# Altium footprint library ADI.PcbLib: 25 footprints (part 1 of 4)
Each footprint in its own frame and in the unit in brackets; x right, y up, seen from the top. Pads: shape width x height; smd on the part's side, far side on the other; paste and mask are expansions set on the pad; w line width, h text height; cw(c..) or ccw(c..) is an arc to the next point about the centre after c.
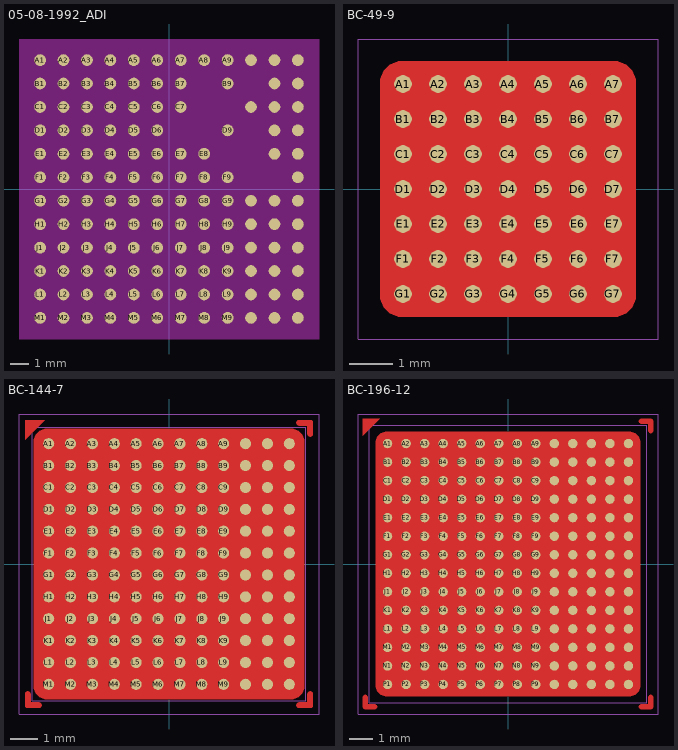
[diagram p0: the footprints below, top view; thin cyan lines are the x and y axes]

## 05-08-1992_ADI [mil]
pads (133):
  round 25 smd paste+0 mask+0: A1(-275,275) A2(-225,275) A3(-175,275) A4(-125,275) A5(-75,275) A6(-25,275) A7(25,275) A8(75,275) A9(125,275) A10(175,275) A11(225,275) A12(275,275) B1(-275,225) B2(-225,225) B3(-175,225) B4(-125,225) B5(-75,225) B6(-25,225) B7(25,225) B9(125,225) B11(225,225) B12(275,225) C1(-275,175) C2(-225,175) C3(-175,175) C4(-125,175) C5(-75,175) C6(-25,175) C7(25,175) C10(175,175) C11(225,175) C12(275,175) D1(-275,125) D2(-225,125) D3(-175,125) D4(-125,125) D5(-75,125) D6(-25,125) D9(125,125) D11(225,125) D12(275,125) E1(-275,75) E2(-225,75) E3(-175,75) E4(-125,75) E5(-75,75) E6(-25,75) E7(25,75) E8(75,75) E11(225,75) E12(275,75) F1(-275,25) F2(-225,25) F3(-175,25) F4(-125,25) F5(-75,25) F6(-25,25) F7(25,25) F8(75,25) F9(125,25) F12(275,25) G1(-275,-25) G2(-225,-25) G3(-175,-25) G4(-125,-25) G5(-75,-25) G6(-25,-25) G7(25,-25) G8(75,-25) G9(125,-25) G10(175,-25) G11(225,-25) G12(275,-25) H1(-275,-75) H2(-225,-75) H3(-175,-75) H4(-125,-75) H5(-75,-75) H6(-25,-75) H7(25,-75) H8(75,-75) H9(125,-75) H10(175,-75) H11(225,-75) H12(275,-75) J1(-275,-125) J2(-225,-125) J3(-175,-125) J4(-125,-125) J5(-75,-125) J6(-25,-125) J7(25,-125) J8(75,-125) J9(125,-125) J10(175,-125) J11(225,-125) J12(275,-125) K1(-275,-175) K2(-225,-175) K3(-175,-175) K4(-125,-175) K5(-75,-175) K6(-25,-175) K7(25,-175) K8(75,-175) K9(125,-175) K10(175,-175) K11(225,-175) K12(275,-175) L1(-275,-225) L2(-225,-225) L3(-175,-225) L4(-125,-225) L5(-75,-225) L6(-25,-225) L7(25,-225) L8(75,-225) L9(125,-225) L10(175,-225) L11(225,-225) L12(275,-225) M1(-275,-275) M2(-225,-275) M3(-175,-275) M4(-125,-275) M5(-75,-275) M6(-25,-275) M7(25,-275) M8(75,-275) M9(125,-275) M10(175,-275) M11(225,-275) M12(275,-275)
Keep-Out Layer:
  region: -320,-320 -320,320 320,320 320,-320
3D body "05-08-1992_ADI.step": height 202.09, standoff 0.02, extent -295.51,-295.51 295.51,295.51

## BC-49-9 [mil]
pads (49):
  round 16 smd paste+0 mask+0: A1(-94.49,94.49) A2(-62.99,94.49) A3(-31.5,94.49) A4(0,94.49) A5(31.5,94.49) A6(62.99,94.49) A7(94.49,94.49) B1(-94.49,62.99) B2(-62.99,62.99) B3(-31.5,62.99) B4(0,62.99) B5(31.5,62.99) B6(62.99,62.99) B7(94.49,62.99) C1(-94.49,31.5) C2(-62.99,31.5) C3(-31.5,31.5) C4(0,31.5) C5(31.5,31.5) C6(62.99,31.5) C7(94.49,31.5) D1(-94.49,0) D2(-62.99,0) D3(-31.5,0) D4(0,0) D5(31.5,0) D6(62.99,0) D7(94.49,0) E1(-94.49,-31.5) E2(-62.99,-31.5) E3(-31.5,-31.5) E4(0,-31.5) E5(31.5,-31.5) E6(62.99,-31.5) E7(94.49,-31.5) F1(-94.49,-62.99) F2(-62.99,-62.99) F3(-31.5,-62.99) F4(0,-62.99) F5(31.5,-62.99) F6(62.99,-62.99) F7(94.49,-62.99) G1(-94.49,-94.49) G2(-62.99,-94.49) G3(-31.5,-94.49) G4(0,-94.49) G5(31.5,-94.49) G6(62.99,-94.49) G7(94.49,-94.49)
Top Layer:
  pour cut-out: -95,115 -98.98,115 -106.33,111.96 -111.96,106.33 -115,98.98 -115,95 -115,-95 -115,-98.98 -111.96,-106.33 -106.33,-111.96 -98.98,-115 -95,-115 95,-115 98.98,-115 106.33,-111.96 111.96,-106.33 115,-98.98 115,-95 115,95 115,98.98 111.96,106.33 106.33,111.96 98.98,115 95,115
Top Solder:
  region: 126.2,114.2 126.2,113.4 126.81,111.93 127.93,110.81 129.4,110.2 130.2,110.2 130.99,110.2 132.46,110.81 133.59,111.93 134.2,113.4 134.2,114.2 134.2,130.2 134.2,130.99 133.59,132.46 132.46,133.59 130.99,134.2 130.2,134.2 114.2,134.2 113.4,134.2 111.93,133.59 110.81,132.46 110.2,130.99 110.2,130.2 110.2,129.4 110.81,127.93 111.93,126.81 113.4,126.2 114.2,126.2 124.2,126.2 124.59,126.16 125.31,125.86 125.86,125.31 126.16,124.59 126.2,124.2
  region: 114.2,-126.2 113.4,-126.2 111.93,-126.81 110.81,-127.93 110.2,-129.4 110.2,-130.2 110.2,-130.99 110.81,-132.46 111.93,-133.59 113.4,-134.2 114.2,-134.2 130.2,-134.2 130.99,-134.2 132.46,-133.59 133.59,-132.46 134.2,-130.99 134.2,-130.2 134.2,-114.2 134.2,-113.4 133.59,-111.93 132.46,-110.81 130.99,-110.2 130.2,-110.2 129.4,-110.2 127.93,-110.81 126.81,-111.93 126.2,-113.4 126.2,-114.2 126.2,-124.2 126.16,-124.59 125.86,-125.31 125.31,-125.86 124.59,-126.16 124.2,-126.2
  region: -126.2,-114.2 -126.2,-113.4 -126.81,-111.93 -127.93,-110.81 -129.4,-110.2 -130.2,-110.2 -130.99,-110.2 -132.46,-110.81 -133.59,-111.93 -134.2,-113.4 -134.2,-114.2 -134.2,-130.2 -134.2,-130.99 -133.59,-132.46 -132.46,-133.59 -130.99,-134.2 -130.2,-134.2 -114.2,-134.2 -113.4,-134.2 -111.93,-133.59 -110.81,-132.46 -110.2,-130.99 -110.2,-130.2 -110.2,-129.4 -110.81,-127.93 -111.93,-126.81 -113.4,-126.2 -114.2,-126.2 -124.2,-126.2 -124.59,-126.16 -125.31,-125.86 -125.86,-125.31 -126.16,-124.59 -126.2,-124.2
  region: -133.5,133.5 -133.5,104.95 -104.95,133.5
Top Courtyard:
  lines w1: -135,-135 -135,135 135,135 135,-135 -135,-135
3D body "BC-49-9_ADI.step": height 212.09, standoff -0.01, extent -122.99,-122.99 123,123

## BC-144-7 [mil]
pads (144):
  round 16 smd mask+2: A1(-173.23,173.23) A2(-141.73,173.23) A3(-110.24,173.23) A4(-78.74,173.23) A5(-47.24,173.23) A6(-15.75,173.23) A7(15.75,173.23) A8(47.24,173.23) A9(78.74,173.23) A10(110.24,173.23) A11(141.73,173.23) A12(173.23,173.23) B1(-173.23,141.73) B2(-141.73,141.73) B3(-110.24,141.73) B4(-78.74,141.73) B5(-47.24,141.73) B6(-15.75,141.73) B7(15.75,141.73) B8(47.24,141.73) B9(78.74,141.73) B10(110.24,141.73) B11(141.73,141.73) B12(173.23,141.73) C1(-173.23,110.24) C2(-141.73,110.24) C3(-110.24,110.24) C4(-78.74,110.24) C5(-47.24,110.24) C6(-15.75,110.24) C7(15.75,110.24) C8(47.24,110.24) C9(78.74,110.24) C10(110.24,110.24) C11(141.73,110.24) C12(173.23,110.24) D1(-173.23,78.74) D2(-141.73,78.74) D3(-110.24,78.74) D4(-78.74,78.74) D5(-47.24,78.74) D6(-15.75,78.74) D7(15.75,78.74) D8(47.24,78.74) D9(78.74,78.74) D10(110.24,78.74) D11(141.73,78.74) D12(173.23,78.74) E1(-173.23,47.24) E2(-141.73,47.24) E3(-110.24,47.24) E4(-78.74,47.24) E5(-47.24,47.24) E6(-15.75,47.24) E7(15.75,47.24) E8(47.24,47.24) E9(78.74,47.24) E10(110.24,47.24) E11(141.73,47.24) E12(173.23,47.24) F1(-173.23,15.75) F2(-141.73,15.75) F3(-110.24,15.75) F4(-78.74,15.75) F5(-47.24,15.75) F6(-15.75,15.75) F7(15.75,15.75) F8(47.24,15.75) F9(78.74,15.75) F10(110.24,15.75) F11(141.73,15.75) F12(173.23,15.75) G1(-173.23,-15.75) G2(-141.73,-15.75) G3(-110.24,-15.75) G4(-78.74,-15.75) G5(-47.24,-15.75) G6(-15.75,-15.75) G7(15.75,-15.75) G8(47.24,-15.75) G9(78.74,-15.75) G10(110.24,-15.75) G11(141.73,-15.75) G12(173.23,-15.75) H1(-173.23,-47.24) H2(-141.73,-47.24) H3(-110.24,-47.24) H4(-78.74,-47.24) H5(-47.24,-47.24) H6(-15.75,-47.24) H7(15.75,-47.24) H8(47.24,-47.24) H9(78.74,-47.24) H10(110.24,-47.24) H11(141.73,-47.24) H12(173.23,-47.24) J1(-173.23,-78.74) J2(-141.73,-78.74) J3(-110.24,-78.74) J4(-78.74,-78.74) J5(-47.24,-78.74) J6(-15.75,-78.74) J7(15.75,-78.74) J8(47.24,-78.74) J9(78.74,-78.74) J10(110.24,-78.74) J11(141.73,-78.74) J12(173.23,-78.74) K1(-173.23,-110.24) K2(-141.73,-110.24) K3(-110.24,-110.24) K4(-78.74,-110.24) K5(-47.24,-110.24) K6(-15.75,-110.24) K7(15.75,-110.24) K8(47.24,-110.24) K9(78.74,-110.24) K10(110.24,-110.24) K11(141.73,-110.24) K12(173.23,-110.24) L1(-173.23,-141.73) L2(-141.73,-141.73) L3(-110.24,-141.73) L4(-78.74,-141.73) L5(-47.24,-141.73) L6(-15.75,-141.73) L7(15.75,-141.73) L8(47.24,-141.73) L9(78.74,-141.73) L10(110.24,-141.73) L11(141.73,-141.73) L12(173.23,-141.73) M1(-173.23,-173.23) M2(-141.73,-173.23) M3(-110.24,-173.23) M4(-78.74,-173.23) M5(-47.24,-173.23) M6(-15.75,-173.23) M7(15.75,-173.23) M8(47.24,-173.23) M9(78.74,-173.23) M10(110.24,-173.23) M11(141.73,-173.23) M12(173.23,-173.23)
Top Layer:
  region: 199.31,187.31 199.31,186.52 199.92,185.05 201.05,183.92 202.52,183.31 203.31,183.31 204.11,183.31 205.58,183.92 206.71,185.05 207.31,186.52 207.31,187.31 207.31,203.31 207.31,204.11 206.71,205.58 205.58,206.71 204.11,207.31 203.31,207.31 187.31,207.31 186.52,207.31 185.05,206.71 183.92,205.58 183.31,204.11 183.31,203.31 183.31,202.52 183.92,201.05 185.05,199.92 186.52,199.31 187.31,199.31 197.31,199.31 197.7,199.28 198.43,198.98 198.98,198.43 199.28,197.71 199.31,197.31
  region: 187.31,-199.31 186.52,-199.31 185.05,-199.92 183.92,-201.05 183.31,-202.52 183.31,-203.31 183.31,-204.11 183.92,-205.58 185.05,-206.71 186.52,-207.31 187.31,-207.31 203.31,-207.31 204.11,-207.31 205.58,-206.71 206.71,-205.58 207.31,-204.11 207.31,-203.31 207.31,-187.31 207.31,-186.52 206.71,-185.05 205.58,-183.92 204.11,-183.31 203.31,-183.31 202.52,-183.31 201.05,-183.92 199.92,-185.05 199.31,-186.52 199.31,-187.31 199.31,-197.31 199.28,-197.7 198.98,-198.43 198.43,-198.98 197.71,-199.28 197.31,-199.31
  pour cut-out: 195,-175 195,-178.98 191.96,-186.33 186.33,-191.96 178.98,-195 175,-195 -175,-195 -178.98,-195 -186.33,-191.96 -191.96,-186.33 -195,-178.98 -195,-175 -195,175 -195,178.98 -191.96,186.33 -186.33,191.96 -178.98,195 -175,195 175,195 178.98,195 186.33,191.96 191.96,186.33 195,178.98 195,175
  region: -207.31,207.31 -207.31,178.77 -178.77,207.32
  region: -199.31,-187.31 -199.31,-186.52 -199.92,-185.05 -201.05,-183.92 -202.52,-183.31 -203.31,-183.31 -204.11,-183.31 -205.58,-183.92 -206.71,-185.05 -207.31,-186.52 -207.31,-187.31 -207.31,-203.31 -207.31,-204.11 -206.71,-205.58 -205.58,-206.71 -204.11,-207.31 -203.31,-207.31 -187.31,-207.31 -186.52,-207.31 -185.05,-206.71 -183.92,-205.58 -183.31,-204.11 -183.31,-203.31 -183.31,-202.52 -183.92,-201.05 -185.05,-199.92 -186.52,-199.31 -187.31,-199.31 -197.31,-199.31 -197.7,-199.28 -198.43,-198.98 -198.98,-198.43 -199.28,-197.71 -199.31,-197.31
Top Designator:
  text ".Designator" at -127.64,-12.5 h35
Top Courtyard:
  lines w1: -216,-216 -216,216 216,216 216,-216 -216,-216
Top Component Outline:
  lines w1: -196.85,-196.85 -196.85,196.85 196.85,196.85 196.85,-196.85 -196.85,-196.85
3D body: height 51.97, standoff 12.6, extent -196.85,-196.85 196.85,196.85
3D body: height 16.84, standoff -2.84, extent -183.03,163.49 -163.43,183.08
3D body: height 16.84, standoff -2.84, extent -183.03,132 -163.43,151.58
3D body: height 16.84, standoff -2.84, extent -183.03,100.5 -163.43,120.09
3D body: height 16.84, standoff -2.84, extent -183.03,69.01 -163.43,88.59
3D body: height 16.84, standoff -2.84, extent -183.03,-56.98 -163.43,-37.39
3D body: height 16.84, standoff -2.84, extent -183.03,-25.48 -163.43,-5.9
3D body: height 16.84, standoff -2.84, extent -183.03,6.01 -163.43,25.6
3D body: height 16.84, standoff -2.84, extent -183.03,37.51 -163.43,57.09
3D body: height 16.84, standoff -2.84, extent -183.03,-182.96 -163.43,-163.38
3D body: height 16.84, standoff -2.84, extent -183.03,-151.47 -163.43,-131.88
3D body: height 16.84, standoff -2.84, extent -183.03,-119.97 -163.43,-100.39
3D body: height 16.84, standoff -2.84, extent -183.03,-88.47 -163.43,-68.89
3D body: height 16.84, standoff -2.84, extent -151.54,163.49 -131.93,183.08
3D body: height 16.84, standoff -2.84, extent -151.54,132 -131.93,151.58
3D body: height 16.84, standoff -2.84, extent -151.54,100.5 -131.93,120.09
3D body: height 16.84, standoff -2.84, extent -151.54,69.01 -131.93,88.59
3D body: height 16.84, standoff -2.84, extent -151.54,-56.98 -131.93,-37.39
3D body: height 16.84, standoff -2.84, extent -151.54,-25.48 -131.93,-5.9
3D body: height 16.84, standoff -2.84, extent -151.54,6.01 -131.93,25.6
3D body: height 16.84, standoff -2.84, extent -151.54,37.51 -131.93,57.09
3D body: height 16.84, standoff -2.84, extent -151.54,-182.96 -131.93,-163.38
3D body: height 16.84, standoff -2.84, extent -151.54,-151.47 -131.93,-131.88
3D body: height 16.84, standoff -2.84, extent -151.54,-119.97 -131.93,-100.39
3D body: height 16.84, standoff -2.84, extent -151.54,-88.47 -131.93,-68.89
3D body: height 16.84, standoff -2.84, extent -120.04,163.49 -100.44,183.08
3D body: height 16.84, standoff -2.84, extent -120.04,132 -100.44,151.58
3D body: height 16.84, standoff -2.84, extent -120.04,100.5 -100.44,120.09
3D body: height 16.84, standoff -2.84, extent -120.04,69.01 -100.44,88.59
3D body: height 16.84, standoff -2.84, extent -120.04,-56.98 -100.44,-37.39
3D body: height 16.84, standoff -2.84, extent -120.04,-25.48 -100.44,-5.9
3D body: height 16.84, standoff -2.84, extent -120.04,6.01 -100.44,25.6
3D body: height 16.84, standoff -2.84, extent -120.04,37.51 -100.44,57.09
3D body: height 16.84, standoff -2.84, extent -120.04,-182.96 -100.44,-163.38
3D body: height 16.84, standoff -2.84, extent -120.04,-151.47 -100.44,-131.88
3D body: height 16.84, standoff -2.84, extent -120.04,-119.97 -100.44,-100.39
3D body: height 16.84, standoff -2.84, extent -120.04,-88.47 -100.44,-68.89
3D body: height 16.84, standoff -2.84, extent -88.54,163.49 -68.94,183.08
3D body: height 16.84, standoff -2.84, extent -88.54,132 -68.94,151.58
3D body: height 16.84, standoff -2.84, extent -88.54,100.5 -68.94,120.09
3D body: height 16.84, standoff -2.84, extent -88.54,69.01 -68.94,88.59
3D body: height 16.84, standoff -2.84, extent -88.54,-56.98 -68.94,-37.39
3D body: height 16.84, standoff -2.84, extent -88.54,-25.48 -68.94,-5.9
3D body: height 16.84, standoff -2.84, extent -88.54,6.01 -68.94,25.6
3D body: height 16.84, standoff -2.84, extent -88.54,37.51 -68.94,57.09
3D body: height 16.84, standoff -2.84, extent -88.54,-182.96 -68.94,-163.38
3D body: height 16.84, standoff -2.84, extent -88.54,-151.47 -68.94,-131.88
3D body: height 16.84, standoff -2.84, extent -88.54,-119.97 -68.94,-100.39
3D body: height 16.84, standoff -2.84, extent -88.54,-88.47 -68.94,-68.89
3D body: height 16.84, standoff -2.84, extent -57.05,163.49 -37.44,183.08
3D body: height 16.84, standoff -2.84, extent -57.05,132 -37.44,151.58
3D body: height 16.84, standoff -2.84, extent -57.05,100.5 -37.44,120.09
3D body: height 16.84, standoff -2.84, extent -57.05,69.01 -37.44,88.59
3D body: height 16.84, standoff -2.84, extent -57.05,-56.98 -37.44,-37.39
3D body: height 16.84, standoff -2.84, extent -57.05,-25.48 -37.44,-5.9
3D body: height 16.84, standoff -2.84, extent -57.05,6.01 -37.44,25.6
3D body: height 16.84, standoff -2.84, extent -57.05,37.51 -37.44,57.09
3D body: height 16.84, standoff -2.84, extent -57.05,-182.96 -37.44,-163.38
3D body: height 16.84, standoff -2.84, extent -57.05,-151.47 -37.44,-131.88
3D body: height 16.84, standoff -2.84, extent -57.05,-119.97 -37.44,-100.39
3D body: height 16.84, standoff -2.84, extent -57.05,-88.47 -37.44,-68.89
3D body: height 16.84, standoff -2.84, extent -25.55,163.49 -5.95,183.08
3D body: height 16.84, standoff -2.84, extent -25.55,132 -5.95,151.58
3D body: height 16.84, standoff -2.84, extent -25.55,100.5 -5.95,120.09
3D body: height 16.84, standoff -2.84, extent -25.55,69.01 -5.95,88.59
3D body: height 16.84, standoff -2.84, extent -25.55,-56.98 -5.95,-37.39
3D body: height 16.84, standoff -2.84, extent -25.55,-25.48 -5.95,-5.9
3D body: height 16.84, standoff -2.84, extent -25.55,6.01 -5.95,25.6
3D body: height 16.84, standoff -2.84, extent -25.55,37.51 -5.95,57.09
3D body: height 16.84, standoff -2.84, extent -25.55,-182.96 -5.95,-163.38
3D body: height 16.84, standoff -2.84, extent -25.55,-151.47 -5.95,-131.88
3D body: height 16.84, standoff -2.84, extent -25.55,-119.97 -5.95,-100.39
3D body: height 16.84, standoff -2.84, extent -25.55,-88.47 -5.95,-68.89
3D body: height 16.84, standoff -2.84, extent 5.94,163.49 25.55,183.08
3D body: height 16.84, standoff -2.84, extent 5.94,132 25.55,151.58
3D body: height 16.84, standoff -2.84, extent 5.94,100.5 25.55,120.09
3D body: height 16.84, standoff -2.84, extent 5.94,69.01 25.55,88.59
3D body: height 16.84, standoff -2.84, extent 5.94,-56.98 25.55,-37.39
3D body: height 16.84, standoff -2.84, extent 5.94,-25.48 25.55,-5.9
3D body: height 16.84, standoff -2.84, extent 5.94,6.01 25.55,25.6
3D body: height 16.84, standoff -2.84, extent 5.94,37.51 25.55,57.09
3D body: height 16.84, standoff -2.84, extent 5.94,-182.96 25.55,-163.38
3D body: height 16.84, standoff -2.84, extent 5.94,-151.47 25.55,-131.88
3D body: height 16.84, standoff -2.84, extent 5.94,-119.97 25.55,-100.39
3D body: height 16.84, standoff -2.84, extent 5.94,-88.47 25.55,-68.89
3D body: height 16.84, standoff -2.84, extent 37.44,163.49 57.04,183.08
3D body: height 16.84, standoff -2.84, extent 37.44,132 57.04,151.58
3D body: height 16.84, standoff -2.84, extent 37.44,100.5 57.04,120.09
3D body: height 16.84, standoff -2.84, extent 37.44,69.01 57.04,88.59
3D body: height 16.84, standoff -2.84, extent 37.44,-56.98 57.04,-37.39
3D body: height 16.84, standoff -2.84, extent 37.44,-25.48 57.04,-5.9
3D body: height 16.84, standoff -2.84, extent 37.44,6.01 57.04,25.6
3D body: height 16.84, standoff -2.84, extent 37.44,37.51 57.04,57.09
3D body: height 16.84, standoff -2.84, extent 37.44,-182.96 57.04,-163.38
3D body: height 16.84, standoff -2.84, extent 37.44,-151.47 57.04,-131.88
3D body: height 16.84, standoff -2.84, extent 37.44,-119.97 57.04,-100.39
3D body: height 16.84, standoff -2.84, extent 37.44,-88.47 57.04,-68.89
3D body: height 16.84, standoff -2.84, extent 68.94,163.49 88.54,183.08
3D body: height 16.84, standoff -2.84, extent 68.94,132 88.54,151.58
3D body: height 16.84, standoff -2.84, extent 68.94,100.5 88.54,120.09
3D body: height 16.84, standoff -2.84, extent 68.94,69.01 88.54,88.59
3D body: height 16.84, standoff -2.84, extent 68.94,-56.98 88.54,-37.39
3D body: height 16.84, standoff -2.84, extent 68.94,-25.48 88.54,-5.9
3D body: height 16.84, standoff -2.84, extent 68.94,6.01 88.54,25.6
3D body: height 16.84, standoff -2.84, extent 68.94,37.51 88.54,57.09
3D body: height 16.84, standoff -2.84, extent 68.94,-182.96 88.54,-163.38
3D body: height 16.84, standoff -2.84, extent 68.94,-151.47 88.54,-131.88
3D body: height 16.84, standoff -2.84, extent 68.94,-119.97 88.54,-100.39
3D body: height 16.84, standoff -2.84, extent 68.94,-88.47 88.54,-68.89
3D body: height 16.84, standoff -2.84, extent 100.43,163.49 120.04,183.08
3D body: height 16.84, standoff -2.84, extent 100.43,132 120.04,151.58
3D body: height 16.84, standoff -2.84, extent 100.43,100.5 120.04,120.09
3D body: height 16.84, standoff -2.84, extent 100.43,69.01 120.04,88.59
3D body: height 16.84, standoff -2.84, extent 100.43,-56.98 120.04,-37.39
3D body: height 16.84, standoff -2.84, extent 100.43,-25.48 120.04,-5.9
3D body: height 16.84, standoff -2.84, extent 100.43,6.01 120.04,25.6
3D body: height 16.84, standoff -2.84, extent 100.43,37.51 120.04,57.09
3D body: height 16.84, standoff -2.84, extent 100.43,-182.96 120.04,-163.38
3D body: height 16.84, standoff -2.84, extent 100.43,-151.47 120.04,-131.88
3D body: height 16.84, standoff -2.84, extent 100.43,-119.97 120.04,-100.39
3D body: height 16.84, standoff -2.84, extent 100.43,-88.47 120.04,-68.89
3D body: height 16.84, standoff -2.84, extent 131.93,163.49 151.53,183.08
3D body: height 16.84, standoff -2.84, extent 131.93,132 151.53,151.58
3D body: height 16.84, standoff -2.84, extent 131.93,100.5 151.53,120.09
3D body: height 16.84, standoff -2.84, extent 131.93,69.01 151.53,88.59
3D body: height 16.84, standoff -2.84, extent 131.93,-56.98 151.53,-37.39
3D body: height 16.84, standoff -2.84, extent 131.93,-25.48 151.53,-5.9
3D body: height 16.84, standoff -2.84, extent 131.93,6.01 151.53,25.6
3D body: height 16.84, standoff -2.84, extent 131.93,37.51 151.53,57.09
3D body: height 16.84, standoff -2.84, extent 131.93,-182.96 151.53,-163.38
3D body: height 16.84, standoff -2.84, extent 131.93,-151.47 151.53,-131.88
3D body: height 16.84, standoff -2.84, extent 131.93,-119.97 151.53,-100.39
3D body: height 16.84, standoff -2.84, extent 131.93,-88.47 151.53,-68.89
3D body: height 16.84, standoff -2.84, extent 163.42,-88.47 183.03,-68.89
3D body: height 16.84, standoff -2.84, extent 163.42,-119.97 183.03,-100.39
3D body: height 16.84, standoff -2.84, extent 163.42,-151.47 183.03,-131.88
3D body: height 16.84, standoff -2.84, extent 163.42,-182.96 183.03,-163.38
3D body: height 16.84, standoff -2.84, extent 163.42,37.51 183.03,57.09
3D body: height 16.84, standoff -2.84, extent 163.42,6.01 183.03,25.6
3D body: height 16.84, standoff -2.84, extent 163.42,-25.48 183.03,-5.9
3D body: height 16.84, standoff -2.84, extent 163.42,-56.98 183.03,-37.39
3D body: height 16.84, standoff -2.84, extent 163.42,69.01 183.03,88.59
3D body: height 16.84, standoff -2.84, extent 163.42,100.5 183.03,120.09
3D body: height 16.84, standoff -2.84, extent 163.42,132 183.03,151.58
3D body: height 16.84, standoff -2.84, extent 163.42,163.49 183.03,183.08

## BC-196-12 [mil]
pads (196):
  round 16 smd mask+2: A1(-204.72,204.72) A2(-173.23,204.72) A3(-141.73,204.72) A4(-110.24,204.72) A5(-78.74,204.72) A6(-47.24,204.72) A7(-15.75,204.72) A8(15.75,204.72) A9(47.24,204.72) A10(78.74,204.72) A11(110.24,204.72) A12(141.73,204.72) A13(173.23,204.72) A14(204.72,204.72) B1(-204.72,173.23) B2(-173.23,173.23) B3(-141.73,173.23) B4(-110.24,173.23) B5(-78.74,173.23) B6(-47.24,173.23) B7(-15.75,173.23) B8(15.75,173.23) B9(47.24,173.23) B10(78.74,173.23) B11(110.24,173.23) B12(141.73,173.23) B13(173.23,173.23) B14(204.72,173.23) C1(-204.72,141.73) C2(-173.23,141.73) C3(-141.73,141.73) C4(-110.24,141.73) C5(-78.74,141.73) C6(-47.24,141.73) C7(-15.75,141.73) C8(15.75,141.73) C9(47.24,141.73) C10(78.74,141.73) C11(110.24,141.73) C12(141.73,141.73) C13(173.23,141.73) C14(204.72,141.73) D1(-204.72,110.24) D2(-173.23,110.24) D3(-141.73,110.24) D4(-110.24,110.24) D5(-78.74,110.24) D6(-47.24,110.24) D7(-15.75,110.24) D8(15.75,110.24) D9(47.24,110.24) D10(78.74,110.24) D11(110.24,110.24) D12(141.73,110.24) D13(173.23,110.24) D14(204.72,110.24) E1(-204.72,78.74) E2(-173.23,78.74) E3(-141.73,78.74) E4(-110.24,78.74) E5(-78.74,78.74) E6(-47.24,78.74) E7(-15.75,78.74) E8(15.75,78.74) E9(47.24,78.74) E10(78.74,78.74) E11(110.24,78.74) E12(141.73,78.74) E13(173.23,78.74) E14(204.72,78.74) F1(-204.72,47.24) F2(-173.23,47.24) F3(-141.73,47.24) F4(-110.24,47.24) F5(-78.74,47.24) F6(-47.24,47.24) F7(-15.75,47.24) F8(15.75,47.24) F9(47.24,47.24) F10(78.74,47.24) F11(110.24,47.24) F12(141.73,47.24) F13(173.23,47.24) F14(204.72,47.24) G1(-204.72,15.75) G2(-173.23,15.75) G3(-141.73,15.75) G4(-110.24,15.75) G5(-78.74,15.75) G6(-47.24,15.75) G7(-15.75,15.75) G8(15.75,15.75) G9(47.24,15.75) G10(78.74,15.75) G11(110.24,15.75) G12(141.73,15.75) G13(173.23,15.75) G14(204.72,15.75) H1(-204.72,-15.75) H2(-173.23,-15.75) H3(-141.73,-15.75) H4(-110.24,-15.75) H5(-78.74,-15.75) H6(-47.24,-15.75) H7(-15.75,-15.75) H8(15.75,-15.75) H9(47.24,-15.75) H10(78.74,-15.75) H11(110.24,-15.75) H12(141.73,-15.75) H13(173.23,-15.75) H14(204.72,-15.75) J1(-204.72,-47.24) J2(-173.23,-47.24) J3(-141.73,-47.24) J4(-110.24,-47.24) J5(-78.74,-47.24) J6(-47.24,-47.24) J7(-15.75,-47.24) J8(15.75,-47.24) J9(47.24,-47.24) J10(78.74,-47.24) J11(110.24,-47.24) J12(141.73,-47.24) J13(173.23,-47.24) J14(204.72,-47.24) K1(-204.72,-78.74) K2(-173.23,-78.74) K3(-141.73,-78.74) K4(-110.24,-78.74) K5(-78.74,-78.74) K6(-47.24,-78.74) K7(-15.75,-78.74) K8(15.75,-78.74) K9(47.24,-78.74) K10(78.74,-78.74) K11(110.24,-78.74) K12(141.73,-78.74) K13(173.23,-78.74) K14(204.72,-78.74) L1(-204.72,-110.24) L2(-173.23,-110.24) L3(-141.73,-110.24) L4(-110.24,-110.24) L5(-78.74,-110.24) L6(-47.24,-110.24) L7(-15.75,-110.24) L8(15.75,-110.24) L9(47.24,-110.24) L10(78.74,-110.24) L11(110.24,-110.24) L12(141.73,-110.24) L13(173.23,-110.24) L14(204.72,-110.24) M1(-204.72,-141.73) M2(-173.23,-141.73) M3(-141.73,-141.73) M4(-110.24,-141.73) M5(-78.74,-141.73) M6(-47.24,-141.73) M7(-15.75,-141.73) M8(15.75,-141.73) M9(47.24,-141.73) M10(78.74,-141.73) M11(110.24,-141.73) M12(141.73,-141.73) M13(173.23,-141.73) M14(204.72,-141.73) N1(-204.72,-173.23) N2(-173.23,-173.23) N3(-141.73,-173.23) N4(-110.24,-173.23) N5(-78.74,-173.23) N6(-47.24,-173.23) N7(-15.75,-173.23) N8(15.75,-173.23) N9(47.24,-173.23) N10(78.74,-173.23) N11(110.24,-173.23) N12(141.73,-173.23) N13(173.23,-173.23) N14(204.72,-173.23) P1(-204.72,-204.72) P2(-173.23,-204.72) P3(-141.73,-204.72) P4(-110.24,-204.72) P5(-78.74,-204.72) P6(-47.24,-204.72) P7(-15.75,-204.72) P8(15.75,-204.72) P9(47.24,-204.72) P10(78.74,-204.72) P11(110.24,-204.72) P12(141.73,-204.72) P13(173.23,-204.72) P14(204.72,-204.72)
Top Layer:
  region: 238.68,226.69 238.68,225.89 239.29,224.42 240.42,223.29 241.89,222.69 242.68,222.69 243.48,222.69 244.95,223.29 246.08,224.42 246.68,225.89 246.68,226.69 246.68,242.69 246.68,243.48 246.08,244.95 244.95,246.08 243.48,246.69 242.68,246.69 226.68,246.69 225.89,246.69 224.42,246.08 223.29,244.95 222.68,243.48 222.68,242.69 222.68,241.89 223.29,240.42 224.42,239.29 225.89,238.69 226.68,238.69 236.68,238.69 237.07,238.65 237.8,238.35 238.35,237.8 238.65,237.08 238.68,236.69
  pour cut-out: -225,-205 -225,-208.98 -221.96,-216.33 -216.33,-221.96 -208.98,-225 -205,-225 205,-225 208.98,-225 216.33,-221.96 221.96,-216.33 225,-208.98 225,-205 225,205 225,208.98 221.96,216.33 216.33,221.96 208.98,225 205,225 -205,225 -208.98,225 -216.33,221.96 -221.96,216.33 -225,208.98 -225,205
  region: -246.69,246.69 -246.69,218.14 -218.14,246.69
  region: 226.69,-238.68 225.89,-238.68 224.42,-239.29 223.29,-240.42 222.69,-241.89 222.69,-242.68 222.69,-243.48 223.29,-244.95 224.42,-246.08 225.89,-246.68 226.69,-246.68 242.69,-246.68 243.48,-246.68 244.95,-246.08 246.08,-244.95 246.69,-243.48 246.69,-242.68 246.69,-226.68 246.69,-225.89 246.08,-224.42 244.95,-223.29 243.48,-222.68 242.69,-222.68 241.89,-222.68 240.42,-223.29 239.29,-224.42 238.69,-225.89 238.69,-226.68 238.69,-236.68 238.65,-237.07 238.35,-237.8 237.8,-238.35 237.08,-238.65 236.69,-238.68
  region: -238.68,-226.69 -238.68,-225.89 -239.29,-224.42 -240.42,-223.29 -241.89,-222.69 -242.68,-222.69 -243.48,-222.69 -244.95,-223.29 -246.08,-224.42 -246.68,-225.89 -246.68,-226.69 -246.68,-242.69 -246.68,-243.48 -246.08,-244.95 -244.95,-246.08 -243.48,-246.69 -242.68,-246.69 -226.68,-246.69 -225.89,-246.69 -224.42,-246.08 -223.29,-244.95 -222.68,-243.48 -222.68,-242.69 -222.68,-241.89 -223.29,-240.42 -224.42,-239.29 -225.89,-238.69 -226.68,-238.69 -236.68,-238.69 -237.07,-238.65 -237.8,-238.35 -238.35,-237.8 -238.65,-237.08 -238.68,-236.69
Top Designator:
  text ".Designator" at -127.64,-12.5 h35
Top Courtyard:
  lines w1: -255,-255 255,-255 255,255 -255,255 -255,-255
Top Component Outline:
  lines w1: -236.22,-236.22 236.22,-236.22 236.22,236.22 -236.22,236.22 -236.22,-236.22 ; -216,192 -207,192 -207,201 -216,201 -216,192 ; -160.73,-152.68 160.73,-152.68 160.73,152.66 -160.73,152.66 -160.73,-152.68
3D body: height 29.96, standoff 27.56, extent 203,-189 206,-178
3D body: height 29.96, standoff 27.56, extent 199,-185 210,-182
3D body: height 29.96, standoff 27.56, extent -216,192 -207,201
3D body: height 48.03, standoff 27.56, extent -160.73,-152.68 160.73,152.66
3D body: height 16.84, standoff -2.84, extent 194.92,194.99 214.52,214.57
3D body: height 16.84, standoff -2.84, extent 194.92,163.49 214.52,183.08
3D body: height 16.84, standoff -2.84, extent 194.92,132 214.52,151.58
3D body: height 16.84, standoff -2.84, extent 194.92,100.5 214.52,120.09
3D body: height 16.84, standoff -2.84, extent 194.92,69.01 214.52,88.59
3D body: height 16.84, standoff -2.84, extent 194.92,37.51 214.52,57.09
3D body: height 16.84, standoff -2.84, extent 194.92,6.01 214.52,25.6
3D body: height 16.84, standoff -2.84, extent 194.92,-25.48 214.52,-5.9
3D body: height 16.84, standoff -2.84, extent 194.92,-56.98 214.52,-37.39
3D body: height 16.84, standoff -2.84, extent 194.92,-88.47 214.52,-68.89
3D body: height 16.84, standoff -2.84, extent 194.92,-119.97 214.52,-100.39
3D body: height 16.84, standoff -2.84, extent 194.92,-151.47 214.52,-131.88
3D body: height 16.84, standoff -2.84, extent 194.92,-182.96 214.52,-163.38
3D body: height 16.84, standoff -2.84, extent 194.92,-214.46 214.52,-194.87
3D body: height 16.84, standoff -2.84, extent 163.42,-214.46 183.03,-194.87
3D body: height 16.84, standoff -2.84, extent 163.42,-182.96 183.03,-163.38
3D body: height 16.84, standoff -2.84, extent 163.42,-151.47 183.03,-131.88
3D body: height 16.84, standoff -2.84, extent 163.42,-119.97 183.03,-100.39
3D body: height 16.84, standoff -2.84, extent 163.42,-88.47 183.03,-68.89
3D body: height 16.84, standoff -2.84, extent 163.42,-56.98 183.03,-37.39
3D body: height 16.84, standoff -2.84, extent 163.42,-25.48 183.03,-5.9
3D body: height 16.84, standoff -2.84, extent 163.42,6.01 183.03,25.6
3D body: height 16.84, standoff -2.84, extent 163.42,37.51 183.03,57.09
3D body: height 16.84, standoff -2.84, extent 163.42,69.01 183.03,88.59
3D body: height 16.84, standoff -2.84, extent 163.42,100.5 183.03,120.09
3D body: height 16.84, standoff -2.84, extent 163.42,132 183.03,151.58
3D body: height 16.84, standoff -2.84, extent 163.42,163.49 183.03,183.08
3D body: height 16.84, standoff -2.84, extent 163.42,194.99 183.03,214.57
3D body: height 16.84, standoff -2.84, extent 131.93,-214.46 151.53,-194.87
3D body: height 16.84, standoff -2.84, extent 131.93,-182.96 151.53,-163.38
3D body: height 16.84, standoff -2.84, extent 131.93,-151.47 151.53,-131.88
3D body: height 16.84, standoff -2.84, extent 131.93,-119.97 151.53,-100.39
3D body: height 16.84, standoff -2.84, extent 131.93,-88.47 151.53,-68.89
3D body: height 16.84, standoff -2.84, extent 131.93,-56.98 151.53,-37.39
3D body: height 16.84, standoff -2.84, extent 131.93,-25.48 151.53,-5.9
3D body: height 16.84, standoff -2.84, extent 131.93,6.01 151.53,25.6
3D body: height 16.84, standoff -2.84, extent 131.93,37.51 151.53,57.09
3D body: height 16.84, standoff -2.84, extent 131.93,69.01 151.53,88.59
3D body: height 16.84, standoff -2.84, extent 131.93,100.5 151.53,120.09
3D body: height 16.84, standoff -2.84, extent 131.93,132 151.53,151.58
3D body: height 16.84, standoff -2.84, extent 131.93,163.49 151.53,183.08
3D body: height 16.84, standoff -2.84, extent 131.93,194.99 151.53,214.57
3D body: height 16.84, standoff -2.84, extent 100.43,-214.46 120.04,-194.87
3D body: height 16.84, standoff -2.84, extent 100.43,-182.96 120.04,-163.38
3D body: height 16.84, standoff -2.84, extent 100.43,-151.47 120.04,-131.88
3D body: height 16.84, standoff -2.84, extent 100.43,-119.97 120.04,-100.39
3D body: height 16.84, standoff -2.84, extent 100.43,-88.47 120.04,-68.89
3D body: height 16.84, standoff -2.84, extent 100.43,-56.98 120.04,-37.39
3D body: height 16.84, standoff -2.84, extent 100.43,-25.48 120.04,-5.9
3D body: height 16.84, standoff -2.84, extent 100.43,6.01 120.04,25.6
3D body: height 16.84, standoff -2.84, extent 100.43,37.51 120.04,57.09
3D body: height 16.84, standoff -2.84, extent 100.43,69.01 120.04,88.59
3D body: height 16.84, standoff -2.84, extent 100.43,100.5 120.04,120.09
3D body: height 16.84, standoff -2.84, extent 100.43,132 120.04,151.58
3D body: height 16.84, standoff -2.84, extent 100.43,163.49 120.04,183.08
3D body: height 16.84, standoff -2.84, extent 100.43,194.99 120.04,214.57
3D body: height 16.84, standoff -2.84, extent 68.94,-214.46 88.54,-194.87
3D body: height 16.84, standoff -2.84, extent 68.94,-182.96 88.54,-163.38
3D body: height 16.84, standoff -2.84, extent 68.94,-151.47 88.54,-131.88
3D body: height 16.84, standoff -2.84, extent 68.94,-119.97 88.54,-100.39
3D body: height 16.84, standoff -2.84, extent 68.94,-88.47 88.54,-68.89
3D body: height 16.84, standoff -2.84, extent 68.94,-56.98 88.54,-37.39
3D body: height 16.84, standoff -2.84, extent 68.94,-25.48 88.54,-5.9
3D body: height 16.84, standoff -2.84, extent 68.94,6.01 88.54,25.6
3D body: height 16.84, standoff -2.84, extent 68.94,37.51 88.54,57.09
3D body: height 16.84, standoff -2.84, extent 68.94,69.01 88.54,88.59
3D body: height 16.84, standoff -2.84, extent 68.94,100.5 88.54,120.09
3D body: height 16.84, standoff -2.84, extent 68.94,132 88.54,151.58
3D body: height 16.84, standoff -2.84, extent 68.94,163.49 88.54,183.08
3D body: height 16.84, standoff -2.84, extent 68.94,194.99 88.54,214.57
3D body: height 16.84, standoff -2.84, extent 37.44,-214.46 57.04,-194.87
3D body: height 16.84, standoff -2.84, extent 37.44,-182.96 57.04,-163.38
3D body: height 16.84, standoff -2.84, extent 37.44,-151.47 57.04,-131.88
3D body: height 16.84, standoff -2.84, extent 37.44,-119.97 57.04,-100.39
3D body: height 16.84, standoff -2.84, extent 37.44,-88.47 57.04,-68.89
3D body: height 16.84, standoff -2.84, extent 37.44,-56.98 57.04,-37.39
3D body: height 16.84, standoff -2.84, extent 37.44,-25.48 57.04,-5.9
3D body: height 16.84, standoff -2.84, extent 37.44,6.01 57.04,25.6
3D body: height 16.84, standoff -2.84, extent 37.44,37.51 57.04,57.09
3D body: height 16.84, standoff -2.84, extent 37.44,69.01 57.04,88.59
3D body: height 16.84, standoff -2.84, extent 37.44,100.5 57.04,120.09
3D body: height 16.84, standoff -2.84, extent 37.44,132 57.04,151.58
3D body: height 16.84, standoff -2.84, extent 37.44,163.49 57.04,183.08
3D body: height 16.84, standoff -2.84, extent 37.44,194.99 57.04,214.57
3D body: height 16.84, standoff -2.84, extent 5.94,-214.46 25.55,-194.87
3D body: height 16.84, standoff -2.84, extent 5.94,-182.96 25.55,-163.38
3D body: height 16.84, standoff -2.84, extent 5.94,-151.47 25.55,-131.88
3D body: height 16.84, standoff -2.84, extent 5.94,-119.97 25.55,-100.39
3D body: height 16.84, standoff -2.84, extent 5.94,-88.47 25.55,-68.89
3D body: height 16.84, standoff -2.84, extent 5.94,-56.98 25.55,-37.39
3D body: height 16.84, standoff -2.84, extent 5.94,-25.48 25.55,-5.9
3D body: height 16.84, standoff -2.84, extent 5.94,6.01 25.55,25.6
3D body: height 16.84, standoff -2.84, extent 5.94,37.51 25.55,57.09
3D body: height 16.84, standoff -2.84, extent 5.94,69.01 25.55,88.59
3D body: height 16.84, standoff -2.84, extent 5.94,100.5 25.55,120.09
3D body: height 16.84, standoff -2.84, extent 5.94,132 25.55,151.58
3D body: height 16.84, standoff -2.84, extent 5.94,163.49 25.55,183.08
3D body: height 16.84, standoff -2.84, extent 5.94,194.99 25.55,214.57
3D body: height 16.84, standoff -2.84, extent -25.55,-214.46 -5.95,-194.87
3D body: height 16.84, standoff -2.84, extent -25.55,-182.96 -5.95,-163.38
3D body: height 16.84, standoff -2.84, extent -25.55,-151.47 -5.95,-131.88
3D body: height 16.84, standoff -2.84, extent -25.55,-119.97 -5.95,-100.39
3D body: height 16.84, standoff -2.84, extent -25.55,-88.47 -5.95,-68.89
3D body: height 16.84, standoff -2.84, extent -25.55,-56.98 -5.95,-37.39
3D body: height 16.84, standoff -2.84, extent -25.55,-25.48 -5.95,-5.9
3D body: height 16.84, standoff -2.84, extent -25.55,6.01 -5.95,25.6
3D body: height 16.84, standoff -2.84, extent -25.55,37.51 -5.95,57.09
3D body: height 16.84, standoff -2.84, extent -25.55,69.01 -5.95,88.59
3D body: height 16.84, standoff -2.84, extent -25.55,100.5 -5.95,120.09
3D body: height 16.84, standoff -2.84, extent -25.55,132 -5.95,151.58
3D body: height 16.84, standoff -2.84, extent -25.55,163.49 -5.95,183.08
3D body: height 16.84, standoff -2.84, extent -25.55,194.99 -5.95,214.57
3D body: height 16.84, standoff -2.84, extent -57.05,-214.46 -37.44,-194.87
3D body: height 16.84, standoff -2.84, extent -57.05,-182.96 -37.44,-163.38
3D body: height 16.84, standoff -2.84, extent -57.05,-151.47 -37.44,-131.88
3D body: height 16.84, standoff -2.84, extent -57.05,-119.97 -37.44,-100.39
3D body: height 16.84, standoff -2.84, extent -57.05,-88.47 -37.44,-68.89
3D body: height 16.84, standoff -2.84, extent -57.05,-56.98 -37.44,-37.39
3D body: height 16.84, standoff -2.84, extent -57.05,-25.48 -37.44,-5.9
3D body: height 16.84, standoff -2.84, extent -57.05,6.01 -37.44,25.6
3D body: height 16.84, standoff -2.84, extent -57.05,37.51 -37.44,57.09
3D body: height 16.84, standoff -2.84, extent -57.05,69.01 -37.44,88.59
3D body: height 16.84, standoff -2.84, extent -57.05,100.5 -37.44,120.09
3D body: height 16.84, standoff -2.84, extent -57.05,132 -37.44,151.58
3D body: height 16.84, standoff -2.84, extent -57.05,163.49 -37.44,183.08
3D body: height 16.84, standoff -2.84, extent -57.05,194.99 -37.44,214.57
3D body: height 16.84, standoff -2.84, extent -88.54,-214.46 -68.94,-194.87
3D body: height 16.84, standoff -2.84, extent -88.54,-182.96 -68.94,-163.38
3D body: height 16.84, standoff -2.84, extent -88.54,-151.47 -68.94,-131.88
3D body: height 16.84, standoff -2.84, extent -88.54,-119.97 -68.94,-100.39
3D body: height 16.84, standoff -2.84, extent -88.54,-88.47 -68.94,-68.89
3D body: height 16.84, standoff -2.84, extent -88.54,-56.98 -68.94,-37.39
3D body: height 16.84, standoff -2.84, extent -88.54,-25.48 -68.94,-5.9
3D body: height 16.84, standoff -2.84, extent -88.54,6.01 -68.94,25.6
3D body: height 16.84, standoff -2.84, extent -88.54,37.51 -68.94,57.09
3D body: height 16.84, standoff -2.84, extent -88.54,69.01 -68.94,88.59
3D body: height 16.84, standoff -2.84, extent -88.54,100.5 -68.94,120.09
3D body: height 16.84, standoff -2.84, extent -88.54,132 -68.94,151.58
3D body: height 16.84, standoff -2.84, extent -88.54,163.49 -68.94,183.08
3D body: height 16.84, standoff -2.84, extent -88.54,194.99 -68.94,214.57
3D body: height 16.84, standoff -2.84, extent -120.04,-214.46 -100.44,-194.87
3D body: height 16.84, standoff -2.84, extent -120.04,-182.96 -100.44,-163.38
3D body: height 16.84, standoff -2.84, extent -120.04,-151.47 -100.44,-131.88
3D body: height 16.84, standoff -2.84, extent -120.04,-119.97 -100.44,-100.39
3D body: height 16.84, standoff -2.84, extent -120.04,-88.47 -100.44,-68.89
3D body: height 16.84, standoff -2.84, extent -120.04,-56.98 -100.44,-37.39
3D body: height 16.84, standoff -2.84, extent -120.04,-25.48 -100.44,-5.9
3D body: height 16.84, standoff -2.84, extent -120.04,6.01 -100.44,25.6
3D body: height 16.84, standoff -2.84, extent -120.04,37.51 -100.44,57.09
3D body: height 16.84, standoff -2.84, extent -120.04,69.01 -100.44,88.59
3D body: height 16.84, standoff -2.84, extent -120.04,100.5 -100.44,120.09
3D body: height 16.84, standoff -2.84, extent -120.04,132 -100.44,151.58
3D body: height 16.84, standoff -2.84, extent -120.04,163.49 -100.44,183.08
3D body: height 16.84, standoff -2.84, extent -120.04,194.99 -100.44,214.57
3D body: height 16.84, standoff -2.84, extent -151.54,-214.46 -131.93,-194.87
3D body: height 16.84, standoff -2.84, extent -151.54,-182.96 -131.93,-163.38
3D body: height 16.84, standoff -2.84, extent -151.54,-151.47 -131.93,-131.88
3D body: height 16.84, standoff -2.84, extent -151.54,-119.97 -131.93,-100.39
3D body: height 16.84, standoff -2.84, extent -151.54,-88.47 -131.93,-68.89
3D body: height 16.84, standoff -2.84, extent -151.54,-56.98 -131.93,-37.39
3D body: height 16.84, standoff -2.84, extent -151.54,-25.48 -131.93,-5.9
3D body: height 16.84, standoff -2.84, extent -151.54,6.01 -131.93,25.6
3D body: height 16.84, standoff -2.84, extent -151.54,37.51 -131.93,57.09
3D body: height 16.84, standoff -2.84, extent -151.54,69.01 -131.93,88.59
3D body: height 16.84, standoff -2.84, extent -151.54,100.5 -131.93,120.09
3D body: height 16.84, standoff -2.84, extent -151.54,132 -131.93,151.58
3D body: height 16.84, standoff -2.84, extent -151.54,163.49 -131.93,183.08
3D body: height 16.84, standoff -2.84, extent -151.54,194.99 -131.93,214.57
3D body: height 16.84, standoff -2.84, extent -183.03,-214.46 -163.43,-194.87
3D body: height 16.84, standoff -2.84, extent -183.03,-182.96 -163.43,-163.38
3D body: height 16.84, standoff -2.84, extent -183.03,-151.47 -163.43,-131.88
3D body: height 16.84, standoff -2.84, extent -183.03,-119.97 -163.43,-100.39
3D body: height 16.84, standoff -2.84, extent -183.03,-88.47 -163.43,-68.89
3D body: height 16.84, standoff -2.84, extent -183.03,-56.98 -163.43,-37.39
3D body: height 16.84, standoff -2.84, extent -183.03,-25.48 -163.43,-5.9
3D body: height 16.84, standoff -2.84, extent -183.03,6.01 -163.43,25.6
3D body: height 16.84, standoff -2.84, extent -183.03,37.51 -163.43,57.09
3D body: height 16.84, standoff -2.84, extent -183.03,69.01 -163.43,88.59
3D body: height 16.84, standoff -2.84, extent -183.03,100.5 -163.43,120.09
3D body: height 16.84, standoff -2.84, extent -183.03,132 -163.43,151.58
3D body: height 16.84, standoff -2.84, extent -183.03,163.49 -163.43,183.08
3D body: height 16.84, standoff -2.84, extent -183.03,194.99 -163.43,214.57
3D body: height 16.84, standoff -2.84, extent -214.53,-214.46 -194.93,-194.87
3D body: height 16.84, standoff -2.84, extent -214.53,-182.96 -194.93,-163.38
3D body: height 16.84, standoff -2.84, extent -214.53,-151.47 -194.93,-131.88
3D body: height 16.84, standoff -2.84, extent -214.53,-119.97 -194.93,-100.39
3D body: height 16.84, standoff -2.84, extent -214.53,-88.47 -194.93,-68.89
3D body: height 16.84, standoff -2.84, extent -214.53,-56.98 -194.93,-37.39
3D body: height 16.84, standoff -2.84, extent -214.53,-25.48 -194.93,-5.9
3D body: height 16.84, standoff -2.84, extent -214.53,6.01 -194.93,25.6
3D body: height 16.84, standoff -2.84, extent -214.53,37.51 -194.93,57.09
3D body: height 16.84, standoff -2.84, extent -214.53,69.01 -194.93,88.59
3D body: height 16.84, standoff -2.84, extent -214.53,100.5 -194.93,120.09
3D body: height 16.84, standoff -2.84, extent -214.53,132 -194.93,151.58
3D body: height 16.84, standoff -2.84, extent -214.53,163.49 -194.93,183.08
3D body: height 16.84, standoff -2.84, extent -214.53,194.99 -194.93,214.57
3D body: height 29.92, standoff 12.6, extent -236.22,-236.22 236.22,236.22